# Altium footprint library 130020900#NIP_PD_电路板印制板.PcbLib: 105 footprints (part 1 of 7)
Each footprint in its own frame and in the unit in brackets; x right, y up, seen from the top. Pads: shape width x height; smd on the part's side, far side on the other; paste and mask are expansions set on the pad; w line width, h text height; cw(c..) or ccw(c..) is an arc to the next point about the centre after c.
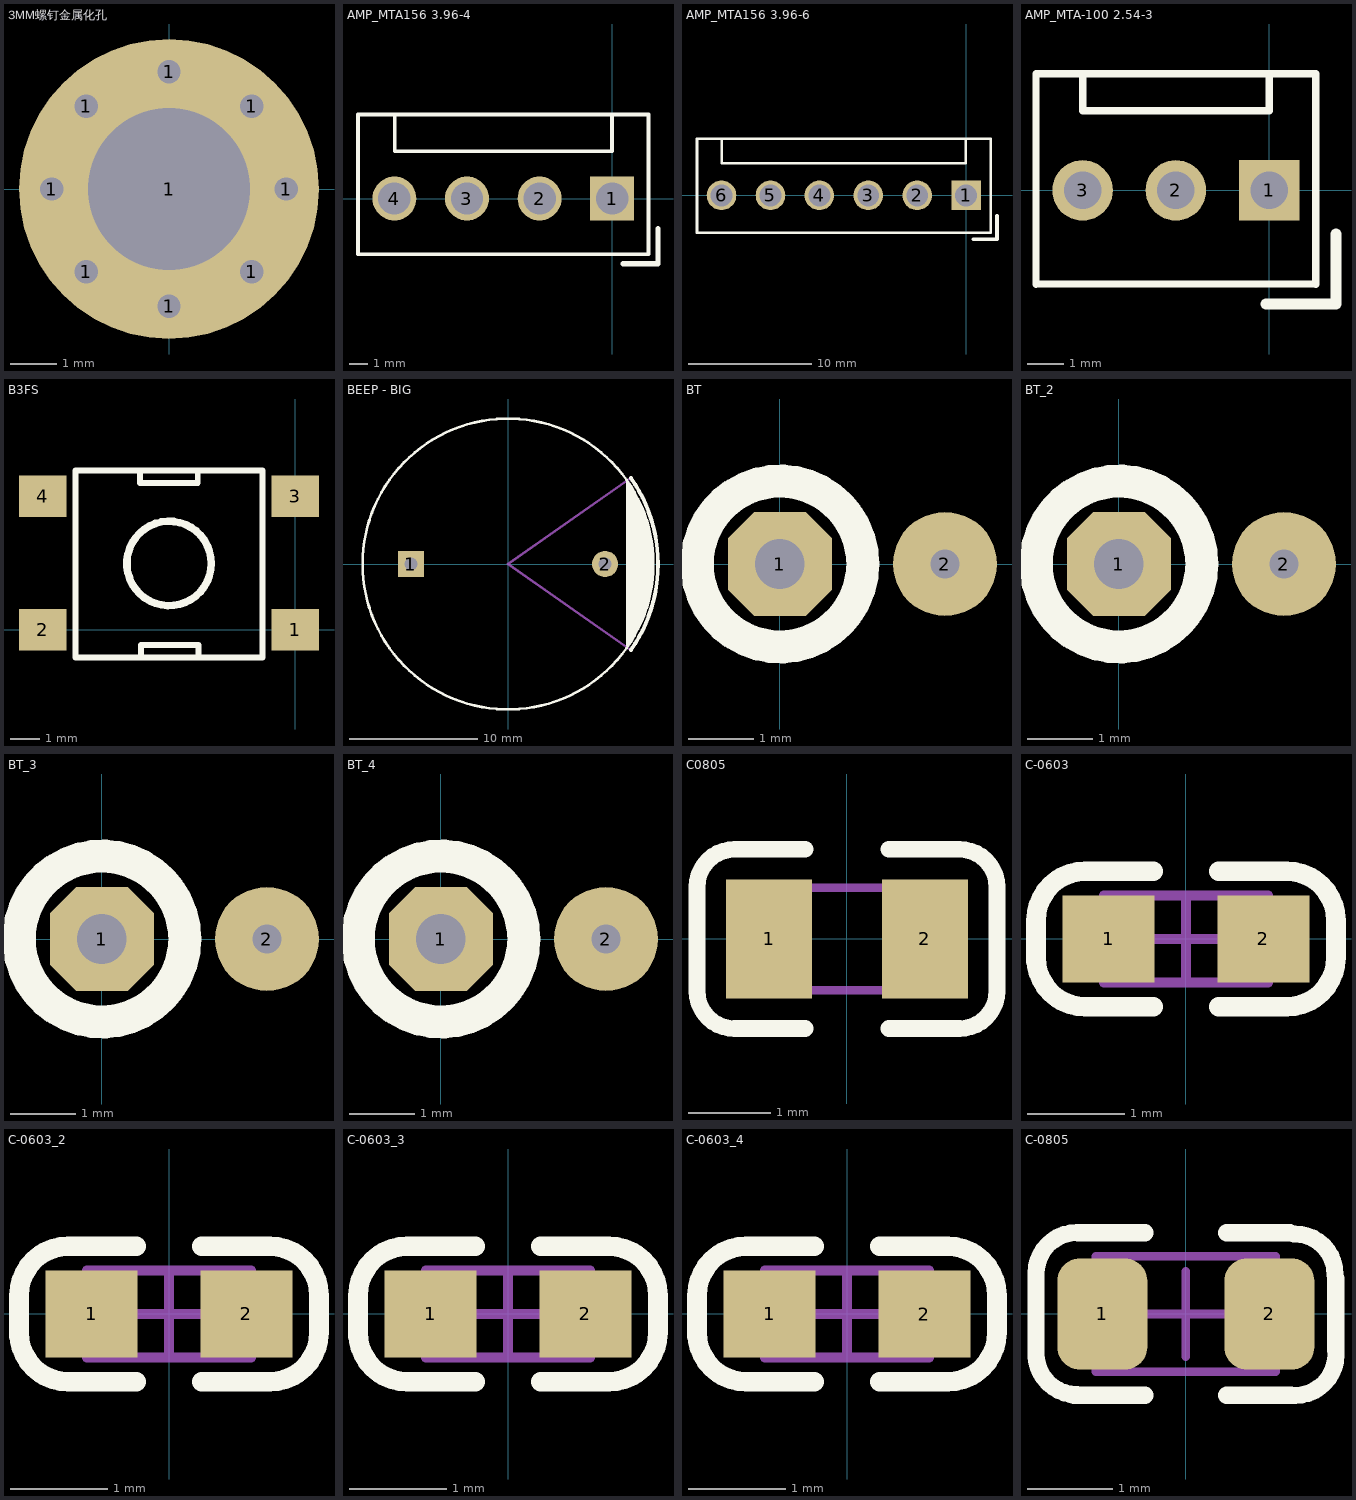
[diagram p0: the footprints below, top view; thin cyan lines are the x and y axes]

## 3MM螺钉金属化孔 [mil]
height 314.96
pads (9):
  round 30 hole 20: 1(-100,0) 1(-70.71,-70.71) 1(-70.71,70.71) 1(0,-100) 1(0,100) 1(70.71,-70.71) 1(70.71,70.71) 1(100,0)
  round 255.91 hole 137.8: 1(0,0)

## AMP_MTA156 3.96-4 [mm]
height 1.6
pads (4):
  rect 2.4x2.4 hole 1.77: 1(0,0)
  round 2.4 hole 1.77: 2(-3.96,0) 3(-7.92,0) 4(-11.88,0)
Top Overlay:
  lines w0.203: -11.872,4.585 -11.865,4.585 -11.865,2.585 -0.015,2.585 -0.015,4.585 -0.022,4.585 ; -13.865,-3.035 -13.865,4.585 1.985,4.585 1.985,-3.035 -13.865,-3.035
  lines w0.3: 0.595,-3.548 2.5,-3.548 2.5,-1.643
3D body "c-641119-4-af-3d.stp": height 15.16, standoff -1.35, extent -13.865,-3.035 1.985,4.585

## AMP_MTA156 3.96-6 [mm]
pads (6):
  rect 2.4x2.4 hole 1.77: 1(0,0)
  round 2.4 hole 1.77: 2(-3.96,0) 3(-7.92,0) 4(-11.88,0) 5(-15.84,0) 6(-19.8,0)
Top Overlay:
  lines w0.203: -19.787,4.585 -19.787,2.585 -0.013,2.585 -0.013,4.585 ; -21.787,-3.035 1.987,-3.035 1.987,4.585 -21.787,4.585 -21.787,-3.035
  lines w0.3: 0.595,-3.548 2.5,-3.548 2.5,-1.643
3D body "c-641119-6-af-3d.stp": height 15.16, standoff -1.35, extent -21.787,-3.035 1.987,4.585

## AMP_MTA-100 2.54-3 [mm]
height 0.45
pads (3):
  rect 1.65x1.65 hole 1.02: 1(0,0)
  round 1.65 hole 1.02: 2(-2.54,0) 3(-5.08,0)
Top Overlay:
  lines w0.2: -6.35,-2.55 1.275,-2.55 ; -5.08,2.175 -5.08,3.175 ; 0,2.184 0,3.15 0.025,3.15
  lines w0.203: -6.35,-2.55 -6.35,3.175 1.275,3.175 1.275,-2.55 ; -5.08,2.175 0,2.175
  lines w0.3: -0.082,-3.098 1.823,-3.098 1.823,-1.193

## B3FS [mm]
pads (4):
  rect 1.6x1.4 smd: 1(0,0) 2(-8.5,0) 3(0,4.5) 4(-8.5,4.5)
Top Overlay:
  circle w0.254: c-4.248,2.236 r1.421
  lines w0.2: -5.225,5.366 -5.225,4.945 ; -5.196,4.945 -5.225,4.945 ; -3.283,5.366 -3.283,4.945 -5.225,4.945 ; -7.398,-0.934 -1.098,-0.934 -1.098,5.366 -7.398,5.366 -7.398,-0.934 ; -5.196,-0.934 -3.253,-0.934 -3.253,-0.512 -5.196,-0.512 -5.196,-0.934

## BEEP - BIG [mil]
pads (2):
  rect 80x80 hole 40: 1(-298.23,0)
  round 80 hole 40: 2(298.23,0)
Top Overlay:
  circle w8: c0,0 r446.46
  region: 366,255 410,177 442,67 446,-35 428,-129 387,-225 366,-251
  lines w6: 366,-251 366,255
  lines w11.81: 377.33,-264.21 ccw(c0,0) 377.33,264.21
Mechanical 15:
  lines w8: 377.14,-264.08 0,0 377.14,264.08

## BT [mm]
height 0.762
pads (2):
  oct 1.6x1.6 hole 0.762: 1(0,0)
  round 1.6 hole 0.45: 2(2.54,0)
Top Overlay:
  circle w0.508: c0,0 r1.275

## BT_2 [mm]
pads (2):
  oct 1.6x1.6 hole 0.762: 1(0,0)
  round 1.6 hole 0.45: 2(2.54,0)
Top Overlay:
  circle w0.508: c0,0 r1.275

## BT_3 [mm]
pads (2):
  oct 1.6x1.6 hole 0.762: 1(0,0)
  round 1.6 hole 0.45: 2(2.54,0)
Top Overlay:
  circle w0.508: c0,0 r1.275

## BT_4 [mm]
pads (2):
  oct 1.6x1.6 hole 0.762: 1(0,0)
  round 1.6 hole 0.45: 2(2.54,0)
Top Overlay:
  circle w0.508: c0,0 r1.275

## C0805 [mm]
height 0.762
pads (2):
  rect 1.05x1.45 smd: 1(-0.95,0) 2(0.95,0)
Top Overlay:
  lines w0.203: -0.508,-1.092 -1.372,-1.092 cw(c-1.372,-0.635) -1.829,-0.635 -1.829,0.635 cw(c-1.372,0.635) -1.372,1.092 -0.508,1.092 ; 0.508,-1.092 1.372,-1.092 ccw(c1.372,-0.635) 1.829,-0.635 1.829,0.635 ccw(c1.372,0.635) 1.372,1.092 0.508,1.092
Mechanical 15:
  lines w0.1: -1,-0.625 1,-0.625 1,0.625 -1,0.625 -1,-0.625

## C-0603 [mm] "Chip Capacitor, 2-Leads, Body 1.60x0.80mm, IPC Medium Density"
height 0.5
pads (2):
  rect 0.95x0.9 smd: 1(-0.8,0) 2(0.8,0)
Top Overlay:
  lines w0.203: -1.55,-0.233 -1.55,0.192 cw(c-1.042,0.192) -1.042,0.7 -0.339,0.7 ; -1.55,-0.192 ccw(c-1.042,-0.192) -1.042,-0.7 -0.339,-0.7 ; 0.339,-0.7 1.042,-0.7 ccw(c1.042,-0.192) 1.55,-0.192 1.55,0.192 ccw(c1.042,0.192) 1.042,0.7 0.339,0.7
Mechanical 13:
  lines w0.1: -0.85,-0.45 -0.85,0.45 0.85,0.45 0.85,-0.45 -0.85,-0.45
Mechanical 15:
  lines w0.1: -0.45,0 0.45,0 ; 0,-0.45 0,0.45
3D body: height 0.5, standoff 0, extent -0.55,-0.45 0.55,0.45
3D body: height 0.5, standoff 0, extent -0.85,-0.45 -0.55,0.45
3D body: height 0.5, standoff 0, extent 0.55,-0.45 0.85,0.45

## C-0603_2 [mm]
pads (2):
  rect 0.95x0.9 smd: 1(-0.8,0) 2(0.8,0)
Top Overlay:
  lines w0.203: -1.55,-0.233 -1.55,0.192 cw(c-1.042,0.192) -1.042,0.7 -0.339,0.7 ; -1.55,-0.192 ccw(c-1.042,-0.192) -1.042,-0.7 -0.339,-0.7 ; 0.339,-0.7 1.042,-0.7 ccw(c1.042,-0.192) 1.55,-0.192 1.55,0.192 ccw(c1.042,0.192) 1.042,0.7 0.339,0.7
Mechanical 13:
  lines w0.1: -0.85,-0.45 0.85,-0.45 0.85,0.45 -0.85,0.45 -0.85,-0.45
Mechanical 15:
  lines w0.1: -0.45,0 0.45,0 ; 0,-0.45 0,0.45
3D body: height 0.5, standoff 0, extent 0.55,-0.45 0.85,0.45
3D body: height 0.5, standoff 0, extent -0.85,-0.45 -0.55,0.45
3D body: height 0.5, standoff 0, extent -0.55,-0.45 0.55,0.45

## C-0603_3 [mm]
pads (2):
  rect 0.95x0.9 smd: 1(-0.8,0) 2(0.8,0)
Top Overlay:
  lines w0.203: -1.55,-0.233 -1.55,0.192 cw(c-1.042,0.192) -1.042,0.7 -0.339,0.7 ; -1.55,-0.192 ccw(c-1.042,-0.192) -1.042,-0.7 -0.339,-0.7 ; 0.339,-0.7 1.042,-0.7 ccw(c1.042,-0.192) 1.55,-0.192 1.55,0.192 ccw(c1.042,0.192) 1.042,0.7 0.339,0.7
Mechanical 13:
  lines w0.1: -0.85,-0.45 -0.85,0.45 0.85,0.45 0.85,-0.45 -0.85,-0.45
Mechanical 15:
  lines w0.1: -0.45,0 0.45,0 ; 0,-0.45 0,0.45
3D body: height 0.5, standoff 0, extent -0.55,-0.45 0.55,0.45
3D body: height 0.5, standoff 0, extent -0.85,-0.45 -0.55,0.45
3D body: height 0.5, standoff 0, extent 0.55,-0.45 0.85,0.45

## C-0603_4 [mm]
pads (2):
  rect 0.95x0.9 smd: 1(-0.8,0) 2(0.8,0)
Top Overlay:
  lines w0.203: -1.55,-0.233 -1.55,0.192 cw(c-1.042,0.192) -1.042,0.7 -0.339,0.7 ; -1.55,-0.192 ccw(c-1.042,-0.192) -1.042,-0.7 -0.339,-0.7 ; 0.339,-0.7 1.042,-0.7 ccw(c1.042,-0.192) 1.55,-0.192 1.55,0.192 ccw(c1.042,0.192) 1.042,0.7 0.339,0.7
Mechanical 13:
  lines w0.1: -0.85,-0.45 -0.85,0.45 0.85,0.45 0.85,-0.45 -0.85,-0.45
Mechanical 15:
  lines w0.1: -0.45,0 0.45,0 ; 0,-0.45 0,0.45
3D body: height 0.5, standoff 0, extent -0.55,-0.45 0.55,0.45
3D body: height 0.5, standoff 0, extent -0.85,-0.45 -0.55,0.45
3D body: height 0.5, standoff 0, extent 0.55,-0.45 0.85,0.45

## C-0805 [mm] "Chip Capacitor, 2-Leads, Body 2.00x1.25mm, IPC Medium Density"
height 1.25
pads (2):
  rrect50% 1.05x1.3 smd: 1(-0.975,0) 2(0.975,0)
Top Overlay:
  lines w0.2: -1.75,0.473 cw(c-1.273,0.473) -1.273,0.95 ; -1.749,-0.466 ccw(c-1.272,-0.466) -1.272,-0.943 ; 1.266,0.936 cw(c1.266,0.459) 1.743,0.459 ; 1.276,-0.95 ccw(c1.276,-0.473) 1.753,-0.473
  lines w0.203: -1.75,-0.507 -1.75,0.455 ; -1.307,-0.95 -0.477,-0.95 ; -1.255,0.95 -0.477,0.95 ; 0.477,-0.95 1.226,-0.95 ; 0.477,0.95 1.214,0.95 ; 1.75,-0.426 1.75,0.414
Mechanical 13:
  lines w0.1: -1.05,-0.675 1.05,-0.675 1.05,0.675 -1.05,0.675 -1.05,-0.675
Mechanical 15:
  lines w0.1: -0.5,0 0.5,0 ; 0,-0.5 0,0.5
3D body: height 0.5, standoff 0, extent 0.7,-0.675 1.05,0.675
3D body: height 0.5, standoff 0, extent -1.05,-0.675 -0.7,0.675
3D body: height 0.5, standoff 0, extent -0.7,-0.675 0.7,0.675